# Altium footprint library CHIP_Test.PcbLib: 65 footprints (part 2 of 5)
Each footprint in its own frame and in the unit in brackets; x right, y up, seen from the top. Pads: shape width x height; smd on the part's side, far side on the other; paste and mask are expansions set on the pad; w line width, h text height; cw(c..) or ccw(c..) is an arc to the next point about the centre after c.
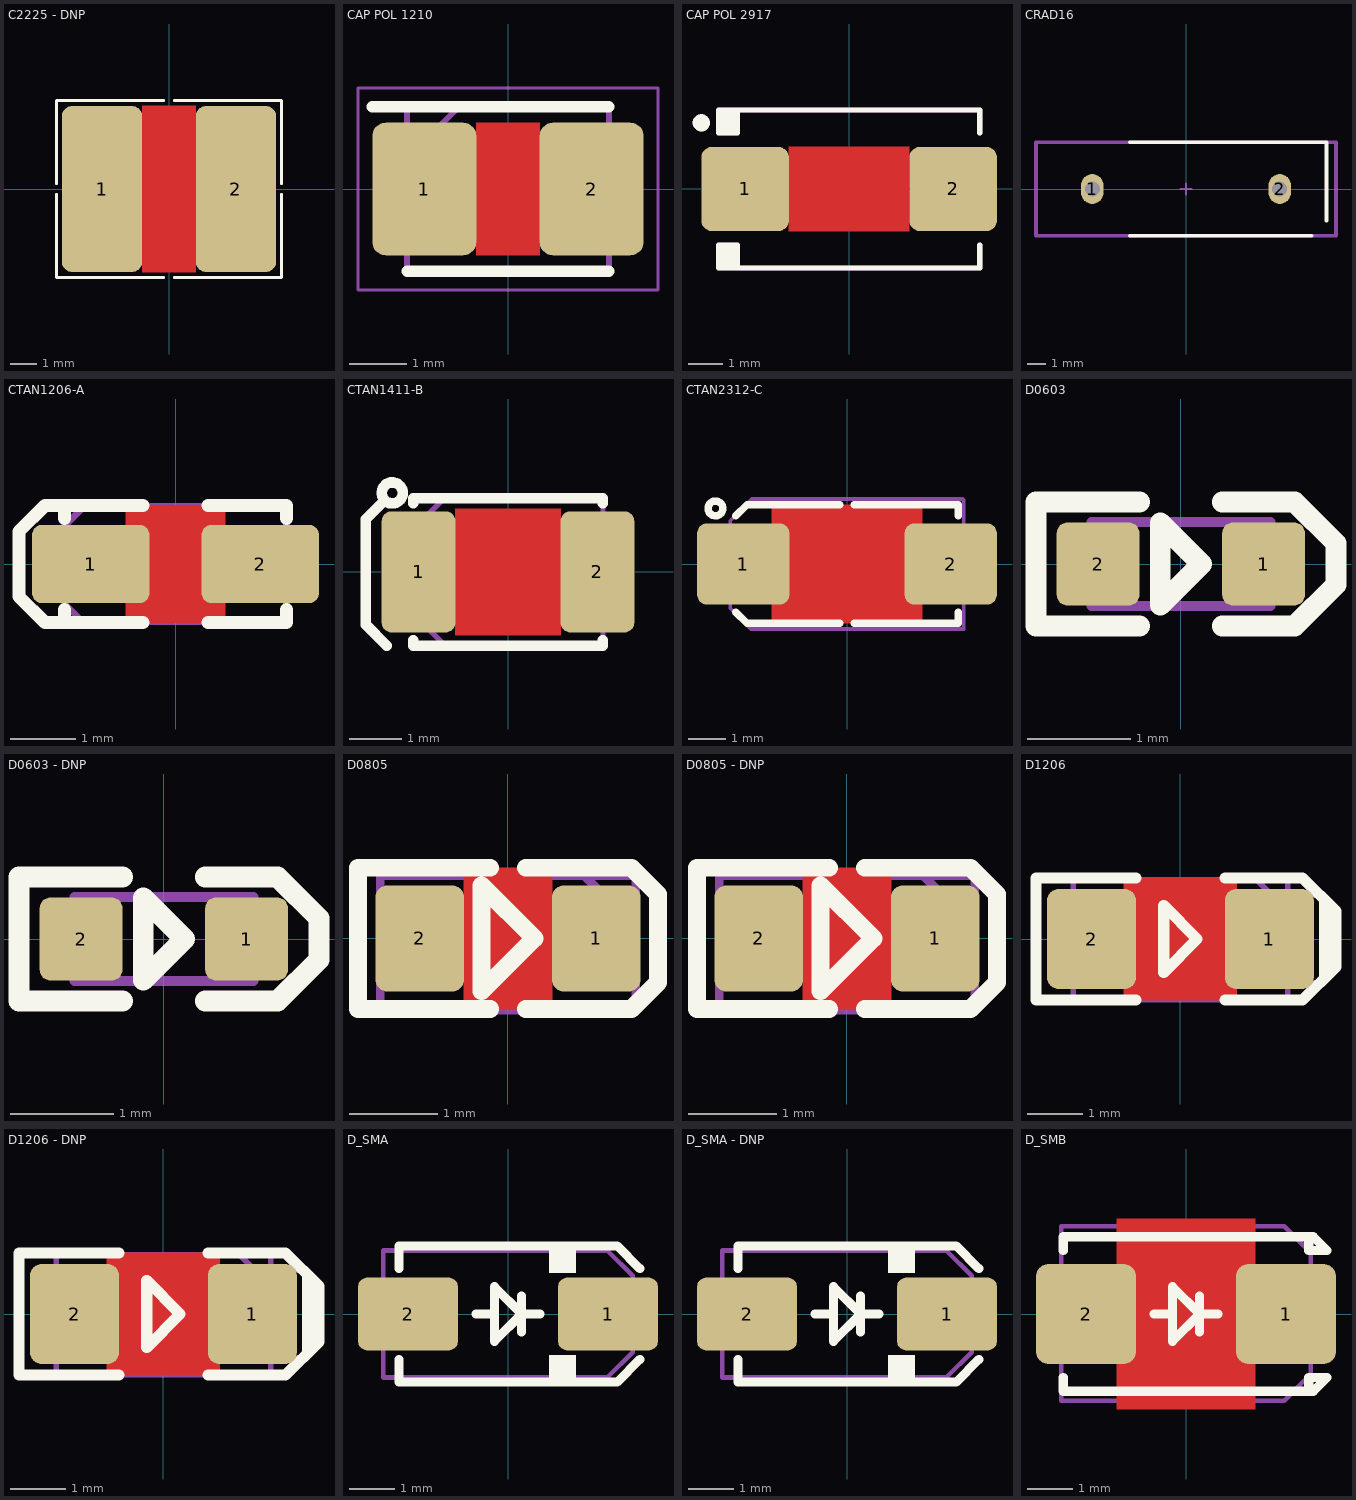
[diagram p1: the footprints below, top view; thin cyan lines are the x and y axes]

## C2225 - DNP [mm] "Chip Capacitor, 5.6x6.4mm, 2225, 5664, 2220"
pads (2):
  rrect25% 3x6.2 smd: 1(-2.5,0) 2(2.5,0)
Top Layer:
  pour cut-out: -1,3.1 1,3.1 1,-3.1 -1,-3.1
Top Overlay:
  lines w0.1: -4.2,-0.2 -4.2,-3.302 -0.2,-3.302 ; -4.2,0.2 -4.2,3.302 -0.2,3.302 ; 0.2,-3.302 4.2,-3.302 4.2,-0.2 ; 0.2,3.302 4.2,3.302 4.2,0.2

## CAP POL 1210 [mm]
pads (2):
  rrect25% 1.8x2.3 smd: 1(-1.45,0) 2(1.45,0)
Top Layer:
  pour cut-out: -0.55,1.15 0.55,1.15 0.55,-1.15 -0.55,-1.15
Top Overlay:
  lines w0.2: -2.35,1.425 1.75,1.425 ; -1.75,-1.425 1.75,-1.425
Mechanical 15:
  lines w0.05: -2.6,-1.75 2.6,-1.75 2.6,1.75 -2.6,1.75 -2.6,-1.75
Mechanical 29:
  lines w0.1: -1.75,0.525 -0.85,1.425 ; -1.75,-1.425 -1.75,1.425 1.75,1.425 1.75,-1.425 -1.75,-1.425
  text "'.Designator'" at -1.84,-0.238 h0.76
3D body "TCJB227M006R0200.stp": height 2.1, standoff 0, extent -1.75,-1.425 1.75,1.425
3D body "TCJB227M006R0200.stp": height 2.1, standoff 0, extent -1.75,-1.425 1.75,1.425

## CAP POL 2917 [mm]
pads (2):
  rrect25% 2.55x2.45 smd: 1(-3.025,0) 2(3.025,0)
Top Layer:
  pour cut-out: -1.75,1.225 1.75,1.225 1.75,-1.225 -1.75,-1.225
Top Overlay:
  circle w0.25: c-4.3,1.925 r0.125
  rectangle: -3.8,-2.3 -3.25,-1.625
  rectangle: -3.8,1.625 -3.25,2.3
  lines w0.15: -3.25,-2.3 -3.25,-1.625 -3.8,-1.625 -3.8,-2.3 3.8,-2.3 3.8,-1.625 ; -3.25,2.3 -3.25,1.625 -3.8,1.625 -3.8,2.3 3.8,2.3 3.8,1.625
Mechanical 15:
  lines w0.1: -0.3,0 0.3,0 ; 0,-0.3 0,0.3
Mechanical 29:
  circle w0.25: c-4.3,1.925 r0.125
  rectangle: -3.8,1.625 -3.25,2.3
  rectangle: -3.8,-2.3 -3.25,-1.625
  lines w0.15: -3.25,-2.3 -3.25,-1.625 -3.8,-1.625 -3.8,-2.3 3.8,-2.3 3.8,-1.625 ; -3.25,2.3 -3.25,1.625 -3.8,1.625 -3.8,2.3 3.8,2.3 3.8,1.625
  text "'.Designator'" at -2.457,-0.317 h1.02
3D body "Tantalum Capacitor case E.STEP": height 4.1, standoff 0, extent -3.65,-2.15 3.65,2.15

## CRAD16 [mm]
pads (2):
  oval 1.2x1.6 hole 0.8 mask+0.05: 1(-5,0) 2(5,0)
Top Overlay:
  lines w0.2: -3,-2.5 6.7,-2.5 ; -3,2.5 7.5,2.5 7.5,-1.7
Mechanical 15:
  lines w0.1: -0.3,0 0.3,0 ; 0,-0.3 0,0.3
Mechanical 29:
  lines w0.2: -8.001,-2.5 8.001,-2.489 8.001,2.5 -8.001,2.5 -8.001,-2.438
  text "'.Designator'" at -3.068,-0.397 h1.27
3D body: height 25, standoff -2, extent -5.317,-0.319 -4.68,0.32
3D body: height 25, standoff -2, extent 4.683,-0.319 5.32,0.32
3D body: height 35, standoff 19, extent -8,-2.5 8,2.5

## CTAN1206-A [mm] "CAPACITOR, TAN A, 1206P, 3.2x1.6mm"
height 1.8
pads (2):
  rrect25% 1.8x1.2 smd mask+0.075: 1(-1.3,0) 2(1.3,0)
Top Layer:
  pour cut-out: -0.762,0.9 0.762,0.9 0.762,-0.9 -0.762,-0.9
Top Overlay:
  lines w0.2: -1.7,-0.7 -1.7,-0.9 ; -1.7,0.7 -1.7,0.9 ; -0.5,-0.9 -1.7,-0.9 ; -0.5,0.9 -1.7,0.9 ; 0.5,-0.9 1.7,-0.9 1.7,-0.7 ; 0.5,0.9 1.7,0.9 1.7,0.7 ; -1.7,-0.9 -2,-0.9 -2.4,-0.5 -2.4,0.5 -2,0.9 -1.7,0.9
Mechanical 29:
  lines w0.1: -1.702,-0.61 -1.422,-0.889 1.702,-0.889 1.702,0.889 -1.397,0.889 -1.702,0.584 -1.702,-0.61
  text "'.Designator'" at -1.534,-0.198 h0.64
3D body "User Library-CAP_TANT_3216-18_A_case-1.step": height 1.7, standoff 0, extent -1.7,-0.9 1.7,0.9

## CTAN1411-B [mm] "CAPACITOR, TAN B, TAN H, TAN T, TAN M, 3528P, 1210P, 3.5X2.8mm"
pads (2):
  rrect25% 1.4x2.3 smd mask+0.1: 1(-1.7,0) 2(1.7,0)
Top Layer:
  pour cut-out: -1,1.2 -1,-1.2 1,-1.2 1,1.2
Top Overlay:
  circle w0.2: c-2.2,1.5 r0.2
  lines w0.2: -2.35,1.35 -2.7,1 -2.7,-1 -2.3,-1.4 ; -1.8,-1.3 -1.8,-1.4 1.8,-1.4 1.8,-1.3 ; -1.8,1.3 -1.8,1.4 1.8,1.4 1.8,1.3
Mechanical 29:
  lines w0.1: -1.803,-0.787 -1.803,0.813 -1.219,1.397 1.803,1.397 1.803,-1.397 -1.194,-1.397 -1.803,-0.787
  text "'.Designator'" at -1.534,-0.198 h0.64
3D body "User Library-AVX_BCASE.step": height 2.03, standoff 0, extent -1.85,-1.465 1.85,1.465

## CTAN2312-C [mm] "CAPACITOR, TAN C, TAN F, TAN U, TAN L, 6032P, 6.0X3.2mm"
height 2.8
pads (2):
  rrect25% 2.5x2.2 smd: 1(-2.8,0) 2(2.8,0)
Top Layer:
  pour cut-out: -2.032,1.6 2.032,1.6 2.032,-1.6 -2.032,-1.6
Top Overlay:
  circle w0.2: c-3.55,1.5 r0.2
  lines w0.2: -3,-1.3 -2.7,-1.6 -0.2,-1.6 ; -3,1.3 -2.7,1.6 -0.2,1.6 ; 0.2,-1.6 3,-1.6 3,-1.3 ; 0.2,1.6 3,1.6 3,1.3
Mechanical 29:
  lines w0.1: -3.15,-1.194 -3.15,1.168 -2.565,1.753 3.124,1.753 3.15,1.727 3.15,-1.753 -2.591,-1.753 -3.15,-1.194
  text "'.Designator'" at -2.457,-0.317 h1.02
3D body "User Library-CAP_TANT_6032-28_y.step": height 2.8, standoff 0, extent -3.15,-1.75 3.15,1.75

## D0603 [mm] "DIODE 0603, CDSU101A (Package SOD-523F)"
pads (2):
  rrect25% 0.8x0.8 smd mask+0.075: 1(0.8,0) 2(-0.8,0)
Top Overlay:
  lines w0.2: -0.4,-0.6 -1.4,-0.6 -1.4,0.6 -0.4,0.6 ; 0.4,-0.6 1.1,-0.6 1.5,-0.2 1.5,0.2 1.1,0.6 0.4,0.6 ; -0.2,-0.4 0.2,0 -0.2,0.4 -0.2,-0.4
Mechanical 29:
  lines w0.1: 0.406,0.406 0.457,0.406 ; 0.584,0.406 0.864,0.406 0.864,0.127 ; 0.584,0.406 0.864,0.127 ; 0.584,0.406 -0.864,0.406 -0.864,-0.406 0.864,-0.406 0.864,0.127
  text "'.Designator'" at -0.737,-0.095 h0.3
3D body "User Library-D0603.step": height 0.56, standoff 0, extent -0.85,-0.4 0.85,0.4

## D0603 - DNP [mm] "DIODE 0603, CDSU101A (Package SOD-523F)"
pads (2):
  rrect25% 0.8x0.8 smd mask+0.075: 1(0.8,0) 2(-0.8,0)
Top Overlay:
  lines w0.2: -0.4,-0.6 -1.4,-0.6 -1.4,0.6 -0.4,0.6 ; 0.4,-0.6 1.1,-0.6 1.5,-0.2 1.5,0.2 1.1,0.6 0.4,0.6 ; -0.2,-0.4 0.2,0 -0.2,0.4 -0.2,-0.4
Mechanical 29:
  lines w0.1: 0.406,0.406 0.457,0.406 ; 0.584,0.406 0.864,0.406 0.864,0.127 ; 0.584,0.406 0.864,0.127 ; 0.584,0.406 -0.864,0.406 -0.864,-0.406 0.864,-0.406 0.864,0.127

## D0805 [mm] "DIODE0805, SOD323 (PHILIPS), SC-76 (JEITA), DL-35, MicroMELF"
height 1.4
pads (2):
  rrect25% 1x1.2 smd mask+0.075: 1(1,0) 2(-1,0)
Top Layer:
  pour cut-out: -0.5,0.8 0.5,0.8 0.5,-0.8 -0.5,-0.8
Top Overlay:
  lines w0.2: -0.2,-0.8 -1.7,-0.8 -1.7,0.8 -0.2,0.8 ; 0.2,-0.8 1.4,-0.8 1.7,-0.5 1.7,0.5 1.4,0.8 0.2,0.8 ; -0.3,-0.6 -0.3,0.6 0.3,0 -0.3,-0.6
Mechanical 29:
  lines w0.1: -1.448,0.686 -1.448,-0.813 1.448,-0.813 1.448,0.127 ; -1.448,0.711 0.864,0.711 ; 0.864,0.711 1.448,0.711 1.448,0.127 ; 0.864,0.711 1.448,0.127
  text "'.Designator'" at -0.916,-0.119 h0.38
3D body "SOD-323.STEP": height 1.17, standoff 0.03, extent -1.43,-0.8 1.43,0.7

## D0805 - DNP [mm] "DIODE0805, SOD323 (PHILIPS), SC-76 (JEITA), DL-35, MicroMELF"
height 1.4
pads (2):
  rrect25% 1x1.2 smd mask+0.075: 1(1,0) 2(-1,0)
Top Layer:
  pour cut-out: -0.5,0.8 0.5,0.8 0.5,-0.8 -0.5,-0.8
Top Overlay:
  lines w0.2: -0.2,-0.8 -1.7,-0.8 -1.7,0.8 -0.2,0.8 ; 0.2,-0.8 1.4,-0.8 1.7,-0.5 1.7,0.5 1.4,0.8 0.2,0.8 ; -0.3,-0.6 0.3,0 -0.3,0.6 -0.3,-0.6
Mechanical 29:
  lines w0.1: -1.448,0.686 -1.448,-0.813 1.448,-0.813 1.448,0.127 ; -1.448,0.711 0.864,0.711 ; 0.864,0.711 1.448,0.127 ; 0.864,0.711 1.448,0.711 1.448,0.127

## D1206 [mm] "SOD123, miniMELF, DO-213AA, MLL34, 320X160D"
pads (2):
  rrect25% 1.6x1.8 smd mask+0.075: 1(1.6,0) 2(-1.6,0)
Top Layer:
  pour cut-out: -1.016,1.1 -1.016,-1.1 1.016,-1.1 1.016,1.1
Top Overlay:
  region: 2.5,0.8 2.5,-0.8 2.8,-0.5 2.8,0.5
  lines w0.2: -0.8,-1.1 -2.6,-1.1 -2.6,1.1 -0.8,1.1 ; 0.8,-1.1 2.2,-1.1 2.8,-0.5 2.8,0.5 2.2,1.1 0.8,1.1 ; -0.3,-0.6 -0.3,0.6 0.3,0 -0.3,-0.6
Mechanical 29:
  lines w0.1: 1.372,1.067 1.93,1.067 1.93,0.508 ; 1.372,1.067 1.93,0.508 ; 1.372,1.067 -1.93,1.067 -1.93,-1.092 1.93,-1.092 1.93,0.508
  text "'.Designator'" at -1.229,-0.159 h0.51
3D body "SOD-123FL.STEP": height 1.35, standoff 0, extent -1.925,-1.076 1.925,1.077

## D1206 - DNP [mm] "SOD123, miniMELF, DO-213AA, MLL34, 320X160D"
pads (2):
  rrect25% 1.6x1.8 smd mask+0.075: 1(1.6,0) 2(-1.6,0)
Top Layer:
  pour cut-out: -1.016,1.1 -1.016,-1.1 1.016,-1.1 1.016,1.1
Top Overlay:
  region: 2.5,0.8 2.5,-0.8 2.8,-0.5 2.8,0.5
  lines w0.2: -0.8,-1.1 -2.6,-1.1 -2.6,1.1 -0.8,1.1 ; 0.8,-1.1 2.2,-1.1 2.8,-0.5 2.8,0.5 2.2,1.1 0.8,1.1 ; -0.3,-0.6 -0.3,0.6 0.3,0 -0.3,-0.6
Mechanical 29:
  lines w0.1: 1.372,1.067 1.93,1.067 1.93,0.508 ; 1.372,1.067 1.93,0.508 ; 1.372,1.067 -1.93,1.067 -1.93,-1.092 1.93,-1.092 1.93,0.508

## D_SMA [mm] "SMA Molded Diode, 2-Leads, Body 4.3x2.7mm, SOD-128"
height 2.4
pads (2):
  rrect25% 2.2x1.6 smd: 1(2.2,0) 2(-2.2,0)
Top Overlay:
  rectangle: 0.9,0.9 1.5,1.5
  rectangle: 0.9,-1.5 1.5,-0.9
  lines w0.2: -2.4,-1 -2.4,-1.5 2.4,-1.5 2.9,-1 ; -2.4,1 -2.4,1.5 2.4,1.5 2.9,1 ; -0.7,0 -0.3,0 ; 0.3,-0.4 0.3,0.4 ; 0.7,0 0.3,0 ; 0.3,0 -0.3,-0.6 -0.3,0.6 0.3,0
Mechanical 29:
  lines w0.1: -2.743,-1.397 -2.743,1.397 2.184,1.397 2.743,0.838 2.743,-0.838 2.184,-1.397 -2.743,-1.397
  text "'.Designator'" at -2.457,-0.317 h1.02
3D body "User Library-DIOM5528X26.step": height 2.6, standoff 0.03, extent -2.75,-1.4 2.75,1.4

## D_SMA - DNP [mm] "SMA Molded Diode, 2-Leads, Body 4.3x2.7mm, SOD-128"
height 2.4
pads (2):
  rrect25% 2.2x1.6 smd: 1(2.2,0) 2(-2.2,0)
Top Overlay:
  rectangle: 0.9,0.9 1.5,1.5
  rectangle: 0.9,-1.5 1.5,-0.9
  lines w0.2: -2.4,-1 -2.4,-1.5 2.4,-1.5 2.9,-1 ; -2.4,1 -2.4,1.5 2.4,1.5 2.9,1 ; -0.7,0 -0.3,0 ; 0.3,-0.4 0.3,0.4 ; 0.7,0 0.3,0 ; 0.3,0 -0.3,-0.6 -0.3,0.6 0.3,0
Mechanical 29:
  lines w0.1: -2.743,-1.397 -2.743,1.397 2.184,1.397 2.743,0.838 2.743,-0.838 2.184,-1.397 -2.743,-1.397
  text "'.Designator'" at -2.457,-0.317 h1.02

## D_SMB [mm] "SMB Molded Diode, 2-Leads, Body 4.3x3.5mm"
pads (2):
  rrect25% 2.2x2.2 smd: 1(2.2,0) 2(-2.2,0)
Top Layer:
  pour cut-out: -1.524,2.1 -1.524,-2.1 1.524,-2.1 1.524,2.1
Top Overlay:
  lines w0.2: -2.7,-1.4 -2.7,-1.7 2.7,-1.7 ; -2.7,1.4 -2.7,1.7 2.7,1.7 2.7,1.4 3.1,1.4 2.8,1.7 2.6,1.7 ; -0.7,0 -0.3,0 ; 0.3,-0.4 0.3,0.4 ; 0.7,0 0.3,0 ; 0.3,0 -0.3,-0.6 -0.3,0.6 0.3,0 ; 2.7,-1.7 2.7,-1.4 3.1,-1.4 2.8,-1.7 2.7,-1.7
Mechanical 29:
  lines w0.1: -2.743,-1.905 2.159,-1.905 2.743,-1.321 2.743,1.346 2.159,1.93 -2.743,1.93 -2.743,-1.905
  text "'.Designator'" at -2.457,-0.317 h1.02
3D body "User Library-DIOM5539X24.step": height 2.45, standoff 0.03, extent -2.735,-1.956 2.765,1.944